# Altium schematic symbol library CUBIC_FC.SchLib: 143 symbols (part 4 of 8)
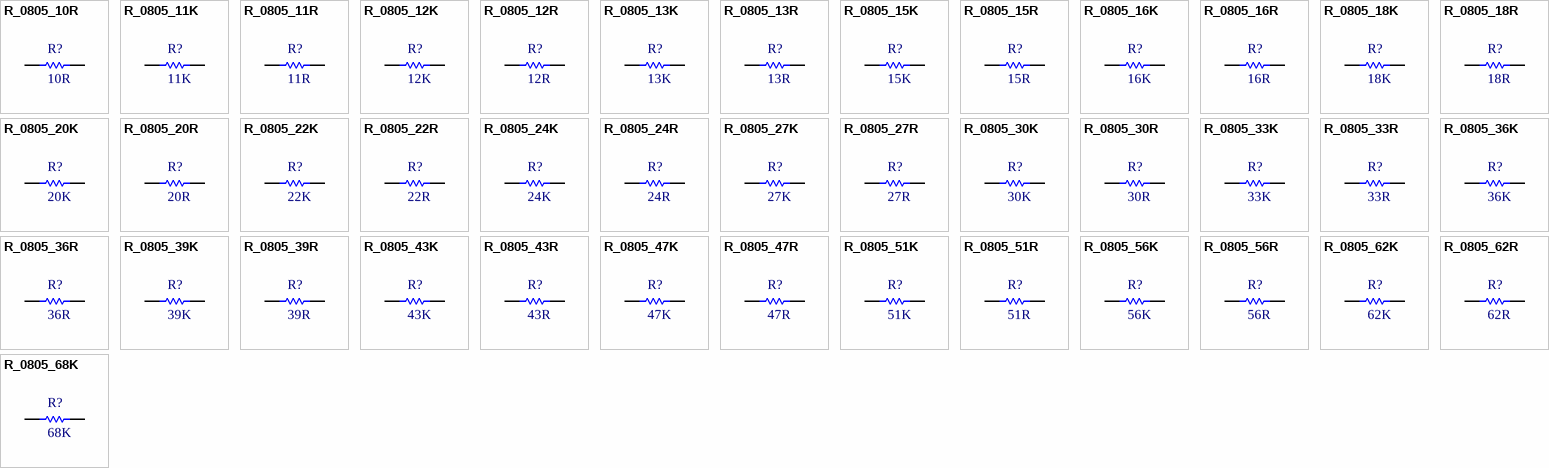
[diagram p6: symbols R_0805_10R to R_0805_68K]

## R_0805_30K
designator R?, comment 30K
Fixed Resistor, Metal Glaze/thick Film, 0.125W, 30000ohm, 150V, 1% +/-Tol, 100ppm/Cel, Surface Mount, 0805; Manufacturer: Panasonic; Manufacturer Part Number: ERJ-6ENF3002V; Power: 125mW; Rated Temperature: 70°C; Value: 30kR; Temperature Coefficient: 100ppm/°C; Package Height: 0.6mm; Package Length: 2mm; Package Width: 1.25mm; Reference Standard: AEC-Q200; Supplier: Digikey; Supplier Part Number: P30.0KCCT-ND; RoHS: Yes; Category: Chip SMD Resistors; Stock: 93180; Pricing: 1=0.11, 10=0.053, 50=0.0344, 100=0.0292, 500=0.02058, 1000=0.01792 (USD); Mounting Technology: Surface Mount; Pins: 2; Package Shape: Rectangular; Case/Package: 0805; Terminal Finish: Nickel; Min Operating Temperature: -55°C; Max Operating Temperature: 155°C; Tolerance: 1%; JESD-609 Code: e3; Resistor Type: FIXED RESISTOR; Construction: Rectangular; Package Style: SMTMeter; Packaging: Tape and Reel; Technology: METAL GLAZE/THICK FILM; Termination: Wraparound; Working Voltage: 150V; Reach SVHC Compliant: Yes; RoHS Compliant: Yes; ComponentLink1URL: https://datasheet.ciiva.com:443/pdfs/VipMasterIC/IC/PANA/PANA-S-A0009889626/PANA-S-A0009889626-1.pdf?src-supplier=IHS+Markit; ComponentLink1Description: https://datasheet.ciiva.com:443/pdfs/VipMasterIC/IC/PANA/PANA-S-A0009889626/PANA-S-A0009889626-1.pdf?src-supplier=IHS+Markit; ComponentLink2URL: https://datasheet.ciiva.com/11821/0900766b80f80784-11821600.pdf?src-supplier=Rs; ComponentLink2Description: https://datasheet.ciiva.com/11821/0900766b80f80784-11821600.pdf?src-supplier=Rs; ComponentLink3URL: https://datasheet.ciiva.com/9117/aoa0000ce2-9117485.pdf?src-supplier=Avnet; ComponentLink3Description: https://datasheet.ciiva.com/9117/aoa0000ce2-9117485.pdf?src-supplier=Avnet; ComponentLink4URL: https://datasheet.ciiva.com/24124/aoa0000ce2-24124393.pdf?src-supplier=Mouser; ComponentLink4Description: https://datasheet.ciiva.com/24124/aoa0000ce2-24124393.pdf?src-supplier=Mouser; ComponentLink5URL: https://datasheet.ciiva.com/22673/1678782-22673293.pdf?src-supplier=Element14; ComponentLink5Description: https://datasheet.ciiva.com/22673/1678782-22673293.pdf?src-supplier=Element14; ComponentLink6URL: https://datasheet.ciiva.com/28565/1694929-28565193.pdf?src-supplier=Element14; ComponentLink6Description: https://datasheet.ciiva.com/28565/1694929-28565193.pdf?src-supplier=Element14; ComponentLink7URL: https://datasheet.ciiva.com/46441/1678782-46441405.pdf?src-supplier=Element14; ComponentLink7Description: https://datasheet.ciiva.com/46441/1678782-46441405.pdf?src-supplier=Element14; ComponentLink8URL: https://datasheet.ciiva.com/46441/1678782-46441406.pdf?src-supplier=Element14; ComponentLink8Description: https://datasheet.ciiva.com/46441/1678782-46441406.pdf?src-supplier=Element14; ComponentLink9URL: https://datasheet.ciiva.com/7711/1678782-7711062.pdf?src-supplier=Element14; ComponentLink9Description: https://datasheet.ciiva.com/7711/1678782-7711062.pdf?src-supplier=Element14; ComponentLink10URL: https://datasheet.ciiva.com/30169/aoa0000ce2-30169447.pdf?src-supplier=Onlinecomponents.com; ComponentLink10Description: https://datasheet.ciiva.com/30169/aoa0000ce2-30169447.pdf?src-supplier=Onlinecomponents.com
footprint R_0805 (Chip Resistor, 2-Leads, Body 2.00x1.25mm, IPC Low Density)
pins: 1, 2

## R_0805_30R
designator R?, comment 30R
Fixed Resistor, Metal Glaze/thick Film, 0.125W, 30ohm, 150V, 1% +/-Tol, 100ppm/Cel, Surface Mount, 0805; Manufacturer: Panasonic; Manufacturer Part Number: ERJ-6ENF30R0V; Power: 125mW; Rated Temperature: 70°C; Temperature Coefficient: 100ppm/°C; Package Height: 0.6mm; Package Length: 2mm; Package Width: 1.25mm; Reference Standard: AEC-Q200; Supplier: Digikey; Supplier Part Number: P30.0CCT-ND; RoHS: Yes; Category: Chip SMD Resistors; Stock: 40182; Pricing: 1=0.11, 10=0.053, 50=0.0344, 100=0.0292, 500=0.02058, 1000=0.01792 (USD); Mounting Technology: Surface Mount; Pins: 2; Package Shape: Rectangular; Case/Package: 0805; Terminal Finish: Nickel; Min Operating Temperature: -55°C; Max Operating Temperature: 155°C; Tolerance: 1%; JESD-609 Code: e3; Resistor Type: FIXED RESISTOR; Construction: Rectangular; Package Style: SMTMeter; Packaging: Tape and Reel; Value: 30R; Technology: METAL GLAZE/THICK FILM; Termination: Wraparound; Working Voltage: 150V; Reach SVHC Compliant: Yes; RoHS Compliant: Yes; ComponentLink1URL: https://datasheet.ciiva.com:443/pdfs/VipMasterIC/IC/PANA/PANA-S-A0009889626/PANA-S-A0009889626-1.pdf?src-supplier=IHS+Markit; ComponentLink1Description: https://datasheet.ciiva.com:443/pdfs/VipMasterIC/IC/PANA/PANA-S-A0009889626/PANA-S-A0009889626-1.pdf?src-supplier=IHS+Markit; ComponentLink2URL: https://datasheet.ciiva.com/24026/aoa0000ce2-24026893.pdf?src-supplier=Mouser; ComponentLink2Description: https://datasheet.ciiva.com/24026/aoa0000ce2-24026893.pdf?src-supplier=Mouser; ComponentLink3URL: https://datasheet.ciiva.com/22674/1678782-22674519.pdf?src-supplier=Element14; ComponentLink3Description: https://datasheet.ciiva.com/22674/1678782-22674519.pdf?src-supplier=Element14; ComponentLink4URL: https://datasheet.ciiva.com/46440/1678782-46440382.pdf?src-supplier=Element14; ComponentLink4Description: https://datasheet.ciiva.com/46440/1678782-46440382.pdf?src-supplier=Element14; ComponentLink5URL: https://datasheet.ciiva.com/7795/1678782-7795550.pdf?src-supplier=Element14; ComponentLink5Description: https://datasheet.ciiva.com/7795/1678782-7795550.pdf?src-supplier=Element14
footprint R_0805 (Chip Resistor, 2-Leads, Body 2.00x1.25mm, IPC Low Density)
pins: 1, 2

## R_0805_33K
designator R?, comment 33K
Fixed Resistor, Metal Glaze/thick Film, 0.125W, 33000ohm, 150V, 1% +/-Tol, 100ppm/Cel, Surface Mount, 0805; Manufacturer: Panasonic; Manufacturer Part Number: ERJ-6ENF3302V; Power: 125mW; Rated Temperature: 70°C; Value: 33kR; Temperature Coefficient: 100ppm/°C; Package Height: 0.6mm; Package Length: 2mm; Package Width: 1.25mm; Reference Standard: AEC-Q200; Supplier: Digikey; Supplier Part Number: P33.0KCCT-ND; RoHS: Yes; Category: Chip SMD Resistors; Stock: 139008; Pricing: 1=0.11, 10=0.053, 50=0.0344, 100=0.0292, 500=0.02058, 1000=0.01792 (USD); Mounting Technology: Surface Mount; Pins: 2; Package Shape: Rectangular; Case/Package: 0805; Terminal Finish: Nickel; Min Operating Temperature: -55°C; Max Operating Temperature: 155°C; Tolerance: 1%; JESD-609 Code: e3; Resistor Type: FIXED RESISTOR; Construction: Rectangular; Package Style: SMTMeter; Packaging: Tape and Reel; Technology: METAL GLAZE/THICK FILM; Termination: Wraparound; Working Voltage: 150V; Reach SVHC Compliant: Yes; RoHS Compliant: Yes; ComponentLink1URL: https://datasheet.ciiva.com:443/pdfs/VipMasterIC/IC/PANA/PANA-S-A0009889626/PANA-S-A0009889626-1.pdf?src-supplier=IHS+Markit; ComponentLink1Description: https://datasheet.ciiva.com:443/pdfs/VipMasterIC/IC/PANA/PANA-S-A0009889626/PANA-S-A0009889626-1.pdf?src-supplier=IHS+Markit; ComponentLink2URL: https://datasheet.ciiva.com/11821/0900766b80f80784-11821633.pdf?src-supplier=Rs; ComponentLink2Description: https://datasheet.ciiva.com/11821/0900766b80f80784-11821633.pdf?src-supplier=Rs; ComponentLink3URL: https://datasheet.ciiva.com/7802/426256-7802442.pdf?src-supplier=Element14; ComponentLink3Description: https://datasheet.ciiva.com/7802/426256-7802442.pdf?src-supplier=Element14; ComponentLink4URL: https://datasheet.ciiva.com/6082/426256-6082150.pdf?src-supplier=Farnell; ComponentLink4Description: https://datasheet.ciiva.com/6082/426256-6082150.pdf?src-supplier=Farnell; ComponentLink5URL: https://datasheet.ciiva.com/22687/1678782-22687082.pdf?src-supplier=Element14; ComponentLink5Description: https://datasheet.ciiva.com/22687/1678782-22687082.pdf?src-supplier=Element14; ComponentLink6URL: https://datasheet.ciiva.com/46398/1678782-46398105.pdf?src-supplier=Element14; ComponentLink6Description: https://datasheet.ciiva.com/46398/1678782-46398105.pdf?src-supplier=Element14; ComponentLink7URL: https://datasheet.ciiva.com/22673/1678782-22673706.pdf?src-supplier=Element14; ComponentLink7Description: https://datasheet.ciiva.com/22673/1678782-22673706.pdf?src-supplier=Element14; ComponentLink8URL: https://datasheet.ciiva.com/46398/1678782-46398106.pdf?src-supplier=Element14; ComponentLink8Description: https://datasheet.ciiva.com/46398/1678782-46398106.pdf?src-supplier=Element14; ComponentLink9URL: https://datasheet.ciiva.com/9190/aoa0000ce2-9190683.pdf?src-supplier=Avnet; ComponentLink9Description: https://datasheet.ciiva.com/9190/aoa0000ce2-9190683.pdf?src-supplier=Avnet; ComponentLink10URL: https://datasheet.ciiva.com/24023/aoa0000ce2-24023910.pdf?src-supplier=Mouser; ComponentLink10Description: https://datasheet.ciiva.com/24023/aoa0000ce2-24023910.pdf?src-supplier=Mouser; ComponentLink11URL: https://datasheet.ciiva.com/30126/aoa0000ce2-30126410.pdf?src-supplier=Onlinecomponents.com; ComponentLink11Description: https://datasheet.ciiva.com/30126/aoa0000ce2-30126410.pdf?src-supplier=Onlinecomponents.com; ComponentLink12URL: https://datasheet.ciiva.com/16771/70260748-16771461.pdf?src-supplier=Allied+Electronics; ComponentLink12Description: https://datasheet.ciiva.com/16771/70260748-16771461.pdf?src-supplier=Allied+Electronics; ComponentLink13URL: https://datasheet.ciiva.com/16787/70260748-16787725.pdf?src-supplier=Allied+Electronics; ComponentLink13Description: https://datasheet.ciiva.com/16787/70260748-16787725.pdf?src-supplier=Allied+Electronics
footprint R_0805 (Chip Resistor, 2-Leads, Body 2.00x1.25mm, IPC Low Density)
pins: 1, 2

## R_0805_33R
designator R?, comment 33R
Fixed Resistor, Metal Glaze/thick Film, 0.125W, 33ohm, 150V, 1% +/-Tol, 100ppm/Cel, Surface Mount, 0805; Manufacturer: Panasonic; Manufacturer Part Number: ERJ-6ENF33R0V; Power: 125mW; Rated Temperature: 70°C; Temperature Coefficient: 100ppm/°C; Package Height: 0.6mm; Package Length: 2mm; Package Width: 1.25mm; Reference Standard: AEC-Q200; Supplier: Digikey; Supplier Part Number: P33.0CCT-ND; RoHS: Yes; Category: Chip SMD Resistors; Stock: 144267; Pricing: 1=0.11, 10=0.053, 50=0.0344, 100=0.0292, 500=0.02058, 1000=0.01792 (USD); Mounting Technology: Surface Mount; Pins: 2; Package Shape: Rectangular; Case/Package: 0805; Terminal Finish: Nickel; Min Operating Temperature: -55°C; Max Operating Temperature: 155°C; Tolerance: 1%; JESD-609 Code: e3; Resistor Type: FIXED RESISTOR; Construction: Rectangular; Package Style: SMTMeter; Packaging: Tape and Reel; Value: 33R; Technology: METAL GLAZE/THICK FILM; Termination: Wraparound; Working Voltage: 150V; Reach SVHC Compliant: Yes; RoHS Compliant: Yes; ComponentLink1URL: https://datasheet.ciiva.com:443/pdfs/VipMasterIC/IC/PANA/PANA-S-A0009889626/PANA-S-A0009889626-1.pdf?src-supplier=IHS+Markit; ComponentLink1Description: https://datasheet.ciiva.com:443/pdfs/VipMasterIC/IC/PANA/PANA-S-A0009889626/PANA-S-A0009889626-1.pdf?src-supplier=IHS+Markit; ComponentLink2URL: https://datasheet.ciiva.com/11821/0900766b80f80784-11821631.pdf?src-supplier=Rs; ComponentLink2Description: https://datasheet.ciiva.com/11821/0900766b80f80784-11821631.pdf?src-supplier=Rs; ComponentLink3URL: https://datasheet.ciiva.com/5917/426256-5917871.pdf?src-supplier=Farnell; ComponentLink3Description: https://datasheet.ciiva.com/5917/426256-5917871.pdf?src-supplier=Farnell; ComponentLink4URL: https://datasheet.ciiva.com/16786/70260748-16786245.pdf?src-supplier=Allied+Electronics; ComponentLink4Description: https://datasheet.ciiva.com/16786/70260748-16786245.pdf?src-supplier=Allied+Electronics; ComponentLink5URL: https://datasheet.ciiva.com/46420/1678782-46420182.pdf?src-supplier=Element14; ComponentLink5Description: https://datasheet.ciiva.com/46420/1678782-46420182.pdf?src-supplier=Element14; ComponentLink6URL: https://datasheet.ciiva.com/30127/aoa0000ce2-30127853.pdf?src-supplier=Onlinecomponents.com; ComponentLink6Description: https://datasheet.ciiva.com/30127/aoa0000ce2-30127853.pdf?src-supplier=Onlinecomponents.com; ComponentLink7URL: https://datasheet.ciiva.com/22673/1678782-22673295.pdf?src-supplier=Element14; ComponentLink7Description: https://datasheet.ciiva.com/22673/1678782-22673295.pdf?src-supplier=Element14; ComponentLink8URL: https://datasheet.ciiva.com/7836/426256-7836540.pdf?src-supplier=Element14; ComponentLink8Description: https://datasheet.ciiva.com/7836/426256-7836540.pdf?src-supplier=Element14; ComponentLink9URL: https://datasheet.ciiva.com/7836/426256-7836825.pdf?src-supplier=Element14; ComponentLink9Description: https://datasheet.ciiva.com/7836/426256-7836825.pdf?src-supplier=Element14
footprint R_0805 (Chip Resistor, 2-Leads, Body 2.00x1.25mm, IPC Low Density)
pins: 1, 2

## R_0805_36K
designator R?, comment 36K
Fixed Resistor, Metal Glaze/thick Film, 0.125W, 360000ohm, 150V, 1% +/-Tol, 100ppm/Cel, Surface Mount, 0805; Manufacturer: Panasonic; Manufacturer Part Number: ERJ-6ENF3603V; Power: 125mW; Rated Temperature: 70°C; Value: 360kR; Temperature Coefficient: 100ppm/°C; Package Height: 0.6mm; Package Length: 2mm; Package Width: 1.25mm; Reference Standard: AEC-Q200; Supplier: Digikey; Supplier Part Number: P360KCCT-ND; RoHS: Yes; Category: Chip SMD Resistors; Stock: 65767; Pricing: 1=0.11, 10=0.053, 50=0.0344, 100=0.0292, 500=0.02058, 1000=0.01792 (USD); Mounting Technology: Surface Mount; Pins: 2; Package Shape: Rectangular; Case/Package: 0805; Terminal Finish: Nickel; Min Operating Temperature: -55°C; Max Operating Temperature: 155°C; Tolerance: 1%; JESD-609 Code: e3; Resistor Type: FIXED RESISTOR; Construction: Rectangular; Package Style: SMTMeter; Packaging: Tape and Reel; Technology: METAL GLAZE/THICK FILM; Termination: Wraparound; Working Voltage: 150V; Reach SVHC Compliant: Yes; RoHS Compliant: Yes; ComponentLink1URL: https://datasheet.ciiva.com:443/pdfs/VipMasterIC/IC/PANA/PANA-S-A0009889626/PANA-S-A0009889626-1.pdf?src-supplier=IHS+Markit; ComponentLink1Description: https://datasheet.ciiva.com:443/pdfs/VipMasterIC/IC/PANA/PANA-S-A0009889626/PANA-S-A0009889626-1.pdf?src-supplier=IHS+Markit; ComponentLink2URL: https://datasheet.ciiva.com/11821/0900766b80f80784-11821629.pdf?src-supplier=Rs; ComponentLink2Description: https://datasheet.ciiva.com/11821/0900766b80f80784-11821629.pdf?src-supplier=Rs; ComponentLink3URL: https://datasheet.ciiva.com/22729/1678782-22729854.pdf?src-supplier=Farnell; ComponentLink3Description: https://datasheet.ciiva.com/22729/1678782-22729854.pdf?src-supplier=Farnell; ComponentLink4URL: https://datasheet.ciiva.com/9182/aoa0000ce2-9182742.pdf?src-supplier=Avnet; ComponentLink4Description: https://datasheet.ciiva.com/9182/aoa0000ce2-9182742.pdf?src-supplier=Avnet; ComponentLink5URL: https://datasheet.ciiva.com/46419/1678782-46419895.pdf?src-supplier=Element14; ComponentLink5Description: https://datasheet.ciiva.com/46419/1678782-46419895.pdf?src-supplier=Element14; ComponentLink6URL: https://datasheet.ciiva.com/22739/1678782-22739743.pdf?src-supplier=Element14; ComponentLink6Description: https://datasheet.ciiva.com/22739/1678782-22739743.pdf?src-supplier=Element14
footprint R_0805 (Chip Resistor, 2-Leads, Body 2.00x1.25mm, IPC Low Density)
pins: 1, 2

## R_0805_36R
designator R?, comment 36R
Fixed Resistor, Metal Glaze/thick Film, 0.125W, 36ohm, 150V, 1% +/-Tol, 100ppm/Cel, Surface Mount, 0805; Manufacturer: Panasonic; Manufacturer Part Number: ERJ-6ENF36R0V; Power: 125mW; Rated Temperature: 70°C; Temperature Coefficient: 100ppm/°C; Package Height: 0.6mm; Package Length: 2mm; Package Width: 1.25mm; Reference Standard: AEC-Q200; Supplier: Digikey; Supplier Part Number: P36.0CCT-ND; RoHS: Yes; Category: Chip SMD Resistors; Stock: 35050; Pricing: 1=0.11, 10=0.053, 50=0.0344, 100=0.0292, 500=0.02058, 1000=0.01792 (USD); Mounting Technology: Surface Mount; Pins: 2; Package Shape: Rectangular; Case/Package: 0805; Terminal Finish: Nickel; Min Operating Temperature: -55°C; Max Operating Temperature: 155°C; Tolerance: 1%; JESD-609 Code: e3; Resistor Type: FIXED RESISTOR; Construction: Rectangular; Package Style: SMTMeter; Packaging: Tape and Reel; Value: 36R; Technology: METAL GLAZE/THICK FILM; Termination: Wraparound; Working Voltage: 150V; Reach SVHC Compliant: Yes; RoHS Compliant: Yes; ComponentLink1URL: https://datasheet.ciiva.com:443/pdfs/VipMasterIC/IC/PANA/PANA-S-A0009889626/PANA-S-A0009889626-1.pdf?src-supplier=IHS+Markit; ComponentLink1Description: https://datasheet.ciiva.com:443/pdfs/VipMasterIC/IC/PANA/PANA-S-A0009889626/PANA-S-A0009889626-1.pdf?src-supplier=IHS+Markit; ComponentLink2URL: https://datasheet.ciiva.com/22721/1678782-22721322.pdf?src-supplier=Farnell; ComponentLink2Description: https://datasheet.ciiva.com/22721/1678782-22721322.pdf?src-supplier=Farnell; ComponentLink3URL: https://datasheet.ciiva.com/9190/aoa0000ce2-9190282.pdf?src-supplier=Avnet; ComponentLink3Description: https://datasheet.ciiva.com/9190/aoa0000ce2-9190282.pdf?src-supplier=Avnet; ComponentLink4URL: https://datasheet.ciiva.com/46419/1678782-46419894.pdf?src-supplier=Element14; ComponentLink4Description: https://datasheet.ciiva.com/46419/1678782-46419894.pdf?src-supplier=Element14
footprint R_0805 (Chip Resistor, 2-Leads, Body 2.00x1.25mm, IPC Low Density)
pins: 1, 2

## R_0805_39K
designator R?, comment 39K
Fixed Resistor, Metal Glaze/thick Film, 0.125W, 39000ohm, 150V, 1% +/-Tol, 100ppm/Cel, Surface Mount, 0805; Manufacturer: Panasonic; Manufacturer Part Number: ERJ-6ENF3902V; Power: 125mW; Rated Temperature: 70°C; Value: 39kR; Temperature Coefficient: 100ppm/°C; Package Height: 0.6mm; Package Length: 2mm; Package Width: 1.25mm; Reference Standard: AEC-Q200; Supplier: Digikey; Supplier Part Number: P39.0KCCT-ND; RoHS: Yes; Category: Chip SMD Resistors; Stock: 120905; Pricing: 1=0.11, 10=0.053, 50=0.0344, 100=0.0292, 500=0.02058, 1000=0.01792 (USD); Mounting Technology: Surface Mount; Pins: 2; Package Shape: Rectangular; Case/Package: 0805; Terminal Finish: Nickel; Min Operating Temperature: -55°C; Max Operating Temperature: 155°C; Tolerance: 1%; JESD-609 Code: e3; Resistor Type: FIXED RESISTOR; Construction: Rectangular; Package Style: SMTMeter; Packaging: Tape and Reel; Technology: METAL GLAZE/THICK FILM; Termination: Wraparound; Working Voltage: 150V; Reach SVHC Compliant: Yes; RoHS Compliant: Yes; ComponentLink1URL: https://datasheet.ciiva.com:443/pdfs/VipMasterIC/IC/PANA/PANA-S-A0009889626/PANA-S-A0009889626-1.pdf?src-supplier=IHS+Markit; ComponentLink1Description: https://datasheet.ciiva.com:443/pdfs/VipMasterIC/IC/PANA/PANA-S-A0009889626/PANA-S-A0009889626-1.pdf?src-supplier=IHS+Markit
footprint R_0805 (Chip Resistor, 2-Leads, Body 2.00x1.25mm, IPC Low Density)
pins: 1, 2

## R_0805_39R
designator R?, comment 39R
Fixed Resistor, Metal Glaze/thick Film, 0.125W, 39ohm, 150V, 1% +/-Tol, 100ppm/Cel, Surface Mount, 0805; Manufacturer: Panasonic; Manufacturer Part Number: ERJ-6ENF39R0V; Power: 125mW; Rated Temperature: 70°C; Temperature Coefficient: 100ppm/°C; Package Height: 0.6mm; Package Length: 2mm; Package Width: 1.25mm; Reference Standard: AEC-Q200; Supplier: Digikey; Supplier Part Number: P39.0CCT-ND; RoHS: Yes; Category: Chip SMD Resistors; Stock: 180159; Pricing: 1=0.11, 10=0.053, 50=0.0344, 100=0.0292, 500=0.02058, 1000=0.01792 (USD); Mounting Technology: Surface Mount; Pins: 2; Package Shape: Rectangular; Case/Package: 0805; Terminal Finish: Nickel; Min Operating Temperature: -55°C; Max Operating Temperature: 155°C; Tolerance: 1%; JESD-609 Code: e3; Resistor Type: FIXED RESISTOR; Construction: Rectangular; Package Style: SMTMeter; Packaging: Tape and Reel; Value: 39R; Technology: METAL GLAZE/THICK FILM; Termination: Wraparound; Working Voltage: 150V; Reach SVHC Compliant: Yes; RoHS Compliant: Yes; ComponentLink1URL: https://datasheet.ciiva.com:443/pdfs/VipMasterIC/IC/PANA/PANA-S-A0009889626/PANA-S-A0009889626-1.pdf?src-supplier=IHS+Markit; ComponentLink1Description: https://datasheet.ciiva.com:443/pdfs/VipMasterIC/IC/PANA/PANA-S-A0009889626/PANA-S-A0009889626-1.pdf?src-supplier=IHS+Markit; ComponentLink2URL: https://datasheet.ciiva.com/5915/426256-5915343.pdf?src-supplier=Farnell; ComponentLink2Description: https://datasheet.ciiva.com/5915/426256-5915343.pdf?src-supplier=Farnell; ComponentLink3URL: https://datasheet.ciiva.com/9190/aoa0000ce2-9190012.pdf?src-supplier=Avnet; ComponentLink3Description: https://datasheet.ciiva.com/9190/aoa0000ce2-9190012.pdf?src-supplier=Avnet; ComponentLink4URL: https://datasheet.ciiva.com/16761/70260748-16761757.pdf?src-supplier=Allied+Electronics; ComponentLink4Description: https://datasheet.ciiva.com/16761/70260748-16761757.pdf?src-supplier=Allied+Electronics; ComponentLink5URL: https://datasheet.ciiva.com/16777/70260748-16777327.pdf?src-supplier=Allied+Electronics; ComponentLink5Description: https://datasheet.ciiva.com/16777/70260748-16777327.pdf?src-supplier=Allied+Electronics; ComponentLink6URL: https://datasheet.ciiva.com/30064/aoa0000ce2-30064223.pdf?src-supplier=Onlinecomponents.com; ComponentLink6Description: https://datasheet.ciiva.com/30064/aoa0000ce2-30064223.pdf?src-supplier=Onlinecomponents.com; ComponentLink7URL: https://datasheet.ciiva.com/22682/1678782-22682204.pdf?src-supplier=Element14; ComponentLink7Description: https://datasheet.ciiva.com/22682/1678782-22682204.pdf?src-supplier=Element14; ComponentLink8URL: https://datasheet.ciiva.com/22687/1678782-22687439.pdf?src-supplier=Element14; ComponentLink8Description: https://datasheet.ciiva.com/22687/1678782-22687439.pdf?src-supplier=Element14; ComponentLink9URL: https://datasheet.ciiva.com/24038/aoa0000ce2-24038777.pdf?src-supplier=Mouser; ComponentLink9Description: https://datasheet.ciiva.com/24038/aoa0000ce2-24038777.pdf?src-supplier=Mouser; ComponentLink10URL: https://datasheet.ciiva.com/7836/426256-7836541.pdf?src-supplier=Element14; ComponentLink10Description: https://datasheet.ciiva.com/7836/426256-7836541.pdf?src-supplier=Element14; ComponentLink11URL: https://datasheet.ciiva.com/7836/426256-7836826.pdf?src-supplier=Element14; ComponentLink11Description: https://datasheet.ciiva.com/7836/426256-7836826.pdf?src-supplier=Element14
footprint R_0805 (Chip Resistor, 2-Leads, Body 2.00x1.25mm, IPC Low Density)
pins: 1, 2

## R_0805_43K
designator R?, comment 43K
Fixed Resistor, Metal Glaze/thick Film, 0.125W, 43000ohm, 150V, 1% +/-Tol, 100ppm/Cel, Surface Mount, 0805; Manufacturer: Panasonic; Manufacturer Part Number: ERJ-6ENF4302V; Power: 125mW; Rated Temperature: 70°C; Value: 43kR; Temperature Coefficient: 100ppm/°C; Package Height: 0.6mm; Package Length: 2mm; Package Width: 1.25mm; Reference Standard: AEC-Q200; Supplier: Digikey; Supplier Part Number: P43.0KCCT-ND; RoHS: Yes; Category: Chip SMD Resistors; Stock: 63242; Pricing: 1=0.11, 10=0.053, 50=0.0344, 100=0.0292, 500=0.02058, 1000=0.01792 (USD); Mounting Technology: Surface Mount; Pins: 2; Package Shape: Rectangular; Case/Package: 0805; Terminal Finish: Nickel; Min Operating Temperature: -55°C; Max Operating Temperature: 155°C; Tolerance: 1%; JESD-609 Code: e3; Resistor Type: FIXED RESISTOR; Construction: Rectangular; Package Style: SMTMeter; Packaging: Tape and Reel; Technology: METAL GLAZE/THICK FILM; Termination: Wraparound; Working Voltage: 150V; Reach SVHC Compliant: Yes; RoHS Compliant: Yes; ComponentLink1URL: https://datasheet.ciiva.com:443/pdfs/VipMasterIC/IC/PANA/PANA-S-A0009889626/PANA-S-A0009889626-1.pdf?src-supplier=IHS+Markit; ComponentLink1Description: https://datasheet.ciiva.com:443/pdfs/VipMasterIC/IC/PANA/PANA-S-A0009889626/PANA-S-A0009889626-1.pdf?src-supplier=IHS+Markit; ComponentLink2URL: https://datasheet.ciiva.com/11821/0900766b80f80784-11821648.pdf?src-supplier=Rs; ComponentLink2Description: https://datasheet.ciiva.com/11821/0900766b80f80784-11821648.pdf?src-supplier=Rs; ComponentLink3URL: https://datasheet.ciiva.com/22681/1678782-22681695.pdf?src-supplier=Element14; ComponentLink3Description: https://datasheet.ciiva.com/22681/1678782-22681695.pdf?src-supplier=Element14; ComponentLink4URL: https://datasheet.ciiva.com/46447/1678782-46447769.pdf?src-supplier=Element14; ComponentLink4Description: https://datasheet.ciiva.com/46447/1678782-46447769.pdf?src-supplier=Element14; ComponentLink5URL: https://datasheet.ciiva.com/7711/1678782-7711066.pdf?src-supplier=Element14; ComponentLink5Description: https://datasheet.ciiva.com/7711/1678782-7711066.pdf?src-supplier=Element14; ComponentLink6URL: https://datasheet.ciiva.com/30142/aoa0000ce2-30142015.pdf?src-supplier=Onlinecomponents.com; ComponentLink6Description: https://datasheet.ciiva.com/30142/aoa0000ce2-30142015.pdf?src-supplier=Onlinecomponents.com
footprint R_0805 (Chip Resistor, 2-Leads, Body 2.00x1.25mm, IPC Low Density)
pins: 1, 2

## R_0805_43R
designator R?, comment 43R
Fixed Resistor, Metal Glaze/thick Film, 0.125W, 43ohm, 150V, 1% +/-Tol, 100ppm/Cel, Surface Mount, 0805; Manufacturer: Panasonic; Manufacturer Part Number: ERJ-6ENF43R0V; Power: 125mW; Rated Temperature: 70°C; Temperature Coefficient: 100ppm/°C; Package Height: 0.6mm; Package Length: 2mm; Package Width: 1.25mm; Reference Standard: AEC-Q200; Supplier: Digikey; Supplier Part Number: P43.0CCT-ND; RoHS: Yes; Category: Chip SMD Resistors; Stock: 6716; Pricing: 1=0.11, 10=0.053, 50=0.0344, 100=0.0292, 500=0.02058, 1000=0.01792 (USD); Mounting Technology: Surface Mount; Pins: 2; Package Shape: Rectangular; Case/Package: 0805; Terminal Finish: Nickel; Min Operating Temperature: -55°C; Max Operating Temperature: 155°C; Tolerance: 1%; JESD-609 Code: e3; Resistor Type: FIXED RESISTOR; Construction: Rectangular; Package Style: SMTMeter; Packaging: Tape and Reel; Value: 43R; Technology: METAL GLAZE/THICK FILM; Termination: Wraparound; Working Voltage: 150V; Reach SVHC Compliant: Yes; RoHS Compliant: Yes; ComponentLink1URL: https://datasheet.ciiva.com:443/pdfs/VipMasterIC/IC/PANA/PANA-S-A0009889626/PANA-S-A0009889626-1.pdf?src-supplier=IHS+Markit; ComponentLink1Description: https://datasheet.ciiva.com:443/pdfs/VipMasterIC/IC/PANA/PANA-S-A0009889626/PANA-S-A0009889626-1.pdf?src-supplier=IHS+Markit; ComponentLink2URL: https://datasheet.ciiva.com/11821/0900766b80f80784-11821647.pdf?src-supplier=Rs; ComponentLink2Description: https://datasheet.ciiva.com/11821/0900766b80f80784-11821647.pdf?src-supplier=Rs; ComponentLink3URL: https://datasheet.ciiva.com/22739/1678782-22739214.pdf?src-supplier=Farnell; ComponentLink3Description: https://datasheet.ciiva.com/22739/1678782-22739214.pdf?src-supplier=Farnell; ComponentLink4URL: https://datasheet.ciiva.com/9189/aoa0000ce2-9189725.pdf?src-supplier=Avnet; ComponentLink4Description: https://datasheet.ciiva.com/9189/aoa0000ce2-9189725.pdf?src-supplier=Avnet; ComponentLink5URL: https://datasheet.ciiva.com/22668/1678782-22668021.pdf?src-supplier=Element14; ComponentLink5Description: https://datasheet.ciiva.com/22668/1678782-22668021.pdf?src-supplier=Element14
footprint R_0805 (Chip Resistor, 2-Leads, Body 2.00x1.25mm, IPC Low Density)
pins: 1, 2

## R_0805_47K
designator R?, comment 47K
Fixed Resistor, Metal Glaze/thick Film, 0.125W, 47000ohm, 150V, 1% +/-Tol, 100ppm/Cel, Surface Mount, 0805; Manufacturer: Panasonic; Manufacturer Part Number: ERJ-6ENF4702V; Power: 125mW; Rated Temperature: 70°C; Value: 47kR; Temperature Coefficient: 100ppm/°C; Package Height: 0.6mm; Package Length: 2mm; Package Width: 1.25mm; Reference Standard: AEC-Q200; Supplier: Digikey; Supplier Part Number: P47.0KCCT-ND; RoHS: Yes; Category: Chip SMD Resistors; Stock: 225746; Pricing: 1=0.11, 10=0.053, 50=0.0344, 100=0.0292, 500=0.02058, 1000=0.01792 (USD); Mounting Technology: Surface Mount; Pins: 2; Package Shape: Rectangular; Case/Package: 0805; Terminal Finish: Nickel; Min Operating Temperature: -55°C; Max Operating Temperature: 155°C; Tolerance: 1%; JESD-609 Code: e3; Resistor Type: FIXED RESISTOR; Construction: Rectangular; Package Style: SMTMeter; Packaging: Tape and Reel; Technology: METAL GLAZE/THICK FILM; Termination: Wraparound; Working Voltage: 150V; Reach SVHC Compliant: Yes; RoHS Compliant: Yes; ComponentLink1URL: https://datasheet.ciiva.com:443/pdfs/VipMasterIC/IC/PANA/PANA-S-A0009889626/PANA-S-A0009889626-1.pdf?src-supplier=IHS+Markit; ComponentLink1Description: https://datasheet.ciiva.com:443/pdfs/VipMasterIC/IC/PANA/PANA-S-A0009889626/PANA-S-A0009889626-1.pdf?src-supplier=IHS+Markit; ComponentLink2URL: https://datasheet.ciiva.com/3883/3984280s8821682n1386-3883650.pdf?src-supplier=Arrow+Electronics; ComponentLink2Description: https://datasheet.ciiva.com/3883/3984280s8821682n1386-3883650.pdf?src-supplier=Arrow+Electronics; ComponentLink3URL: https://datasheet.ciiva.com/11821/0900766b80f80784-11821639.pdf?src-supplier=Rs; ComponentLink3Description: https://datasheet.ciiva.com/11821/0900766b80f80784-11821639.pdf?src-supplier=Rs; ComponentLink4URL: https://datasheet.ciiva.com/9189/aoa0000ce2-9189448.pdf?src-supplier=Avnet; ComponentLink4Description: https://datasheet.ciiva.com/9189/aoa0000ce2-9189448.pdf?src-supplier=Avnet; ComponentLink5URL: https://datasheet.ciiva.com/7802/426256-7802693.pdf?src-supplier=Element14; ComponentLink5Description: https://datasheet.ciiva.com/7802/426256-7802693.pdf?src-supplier=Element14; ComponentLink6URL: https://datasheet.ciiva.com/16765/70260748-16765017.pdf?src-supplier=Allied+Electronics; ComponentLink6Description: https://datasheet.ciiva.com/16765/70260748-16765017.pdf?src-supplier=Allied+Electronics; ComponentLink7URL: https://datasheet.ciiva.com/30059/aoa0000ce2-30059497.pdf?src-supplier=Onlinecomponents.com; ComponentLink7Description: https://datasheet.ciiva.com/30059/aoa0000ce2-30059497.pdf?src-supplier=Onlinecomponents.com; ComponentLink8URL: https://datasheet.ciiva.com/28587/1678782-28587221.pdf?src-supplier=Element14; ComponentLink8Description: https://datasheet.ciiva.com/28587/1678782-28587221.pdf?src-supplier=Element14
footprint R_0805 (Chip Resistor, 2-Leads, Body 2.00x1.25mm, IPC Low Density)
pins: 1, 2

## R_0805_47R
designator R?, comment 47R
Fixed Resistor, Metal Glaze/thick Film, 0.125W, 47ohm, 150V, 1% +/-Tol, 100ppm/Cel, Surface Mount, 0805; Manufacturer: Panasonic; Manufacturer Part Number: ERJ-6ENF47R0V; Power: 125mW; Rated Temperature: 70°C; Temperature Coefficient: 100ppm/°C; Package Height: 0.6mm; Package Length: 2mm; Package Width: 1.25mm; Reference Standard: AEC-Q200; Supplier: Digikey; Supplier Part Number: P47.0CCT-ND; RoHS: Yes; Category: Chip SMD Resistors; Stock: 41869; Pricing: 1=0.11, 10=0.053, 50=0.0344, 100=0.0292, 500=0.02058, 1000=0.01792 (USD); Mounting Technology: Surface Mount; Pins: 2; Package Shape: Rectangular; Case/Package: 0805; Terminal Finish: Nickel; Min Operating Temperature: -55°C; Max Operating Temperature: 155°C; Tolerance: 1%; JESD-609 Code: e3; Resistor Type: FIXED RESISTOR; Construction: Rectangular; Package Style: SMTMeter; Packaging: Tape and Reel; Value: 47R; Technology: METAL GLAZE/THICK FILM; Termination: Wraparound; Working Voltage: 150V; Reach SVHC Compliant: Yes; RoHS Compliant: Yes; ComponentLink1URL: https://datasheet.ciiva.com:443/pdfs/VipMasterIC/IC/PANA/PANA-S-A0009889626/PANA-S-A0009889626-1.pdf?src-supplier=IHS+Markit; ComponentLink1Description: https://datasheet.ciiva.com:443/pdfs/VipMasterIC/IC/PANA/PANA-S-A0009889626/PANA-S-A0009889626-1.pdf?src-supplier=IHS+Markit; ComponentLink2URL: https://datasheet.ciiva.com/6082/426256-6082156.pdf?src-supplier=Farnell; ComponentLink2Description: https://datasheet.ciiva.com/6082/426256-6082156.pdf?src-supplier=Farnell; ComponentLink3URL: https://datasheet.ciiva.com/24124/aoa0000ce2-24124363.pdf?src-supplier=Mouser; ComponentLink3Description: https://datasheet.ciiva.com/24124/aoa0000ce2-24124363.pdf?src-supplier=Mouser; ComponentLink4URL: https://datasheet.ciiva.com/28568/1678782-28568988.pdf?src-supplier=Element14; ComponentLink4Description: https://datasheet.ciiva.com/28568/1678782-28568988.pdf?src-supplier=Element14; ComponentLink5URL: https://datasheet.ciiva.com/46371/1678782-46371768.pdf?src-supplier=Element14; ComponentLink5Description: https://datasheet.ciiva.com/46371/1678782-46371768.pdf?src-supplier=Element14; ComponentLink6URL: https://datasheet.ciiva.com/7887/426256-7887033.pdf?src-supplier=Element14; ComponentLink6Description: https://datasheet.ciiva.com/7887/426256-7887033.pdf?src-supplier=Element14; ComponentLink7URL: https://datasheet.ciiva.com/16772/70260748-16772181.pdf?src-supplier=Allied+Electronics; ComponentLink7Description: https://datasheet.ciiva.com/16772/70260748-16772181.pdf?src-supplier=Allied+Electronics; ComponentLink8URL: https://datasheet.ciiva.com/16777/70260748-16777259.pdf?src-supplier=Allied+Electronics; ComponentLink8Description: https://datasheet.ciiva.com/16777/70260748-16777259.pdf?src-supplier=Allied+Electronics; ComponentLink9URL: https://datasheet.ciiva.com/30160/aoa0000ce2-30160043.pdf?src-supplier=Onlinecomponents.com; ComponentLink9Description: https://datasheet.ciiva.com/30160/aoa0000ce2-30160043.pdf?src-supplier=Onlinecomponents.com
footprint R_0805 (Chip Resistor, 2-Leads, Body 2.00x1.25mm, IPC Low Density)
pins: 1, 2

## R_0805_51K
designator R?, comment 51K
Fixed Resistor, Metal Glaze/thick Film, 0.125W, 51000ohm, 150V, 1% +/-Tol, 100ppm/Cel, Surface Mount, 0805; Manufacturer: Panasonic; Manufacturer Part Number: ERJ-6ENF5102V; Power: 125mW; Rated Temperature: 70°C; Value: 51kR; Temperature Coefficient: 100ppm/°C; Package Height: 0.6mm; Package Length: 2mm; Package Width: 1.25mm; Reference Standard: AEC-Q200; Supplier: Digikey; Supplier Part Number: P51.0KCCT-ND; RoHS: Yes; Category: Chip SMD Resistors; Stock: 104118; Pricing: 1=0.11, 10=0.053, 50=0.0344, 100=0.0292, 500=0.02058, 1000=0.01792 (USD); Mounting Technology: Surface Mount; Pins: 2; Package Shape: Rectangular; Case/Package: 0805; Terminal Finish: Nickel; Min Operating Temperature: -55°C; Max Operating Temperature: 155°C; Tolerance: 1%; JESD-609 Code: e3; Resistor Type: FIXED RESISTOR; Construction: Rectangular; Package Style: SMTMeter; Packaging: Tape and Reel; Technology: METAL GLAZE/THICK FILM; Termination: Wraparound; Working Voltage: 150V; Reach SVHC Compliant: Yes; RoHS Compliant: Yes; ComponentLink1URL: https://datasheet.ciiva.com:443/pdfs/VipMasterIC/IC/PANA/PANA-S-A0009889626/PANA-S-A0009889626-1.pdf?src-supplier=IHS+Markit; ComponentLink1Description: https://datasheet.ciiva.com:443/pdfs/VipMasterIC/IC/PANA/PANA-S-A0009889626/PANA-S-A0009889626-1.pdf?src-supplier=IHS+Markit; ComponentLink2URL: https://datasheet.ciiva.com/11821/0900766b80f80784-11821667.pdf?src-supplier=Rs; ComponentLink2Description: https://datasheet.ciiva.com/11821/0900766b80f80784-11821667.pdf?src-supplier=Rs; ComponentLink3URL: https://datasheet.ciiva.com/46381/1678782-46381560.pdf?src-supplier=Element14; ComponentLink3Description: https://datasheet.ciiva.com/46381/1678782-46381560.pdf?src-supplier=Element14; ComponentLink4URL: https://datasheet.ciiva.com/46381/1678782-46381561.pdf?src-supplier=Element14; ComponentLink4Description: https://datasheet.ciiva.com/46381/1678782-46381561.pdf?src-supplier=Element14; ComponentLink5URL: https://datasheet.ciiva.com/22682/1678782-22682207.pdf?src-supplier=Element14; ComponentLink5Description: https://datasheet.ciiva.com/22682/1678782-22682207.pdf?src-supplier=Element14; ComponentLink6URL: https://datasheet.ciiva.com/24026/aoa0000ce2-24026488.pdf?src-supplier=Mouser; ComponentLink6Description: https://datasheet.ciiva.com/24026/aoa0000ce2-24026488.pdf?src-supplier=Mouser; ComponentLink7URL: https://datasheet.ciiva.com/30051/aoa0000ce2-30051758.pdf?src-supplier=Onlinecomponents.com; ComponentLink7Description: https://datasheet.ciiva.com/30051/aoa0000ce2-30051758.pdf?src-supplier=Onlinecomponents.com; ComponentLink8URL: https://datasheet.ciiva.com/16774/70260748-16774949.pdf?src-supplier=Allied+Electronics; ComponentLink8Description: https://datasheet.ciiva.com/16774/70260748-16774949.pdf?src-supplier=Allied+Electronics; ComponentLink9URL: https://datasheet.ciiva.com/16788/70260748-16788109.pdf?src-supplier=Allied+Electronics; ComponentLink9Description: https://datasheet.ciiva.com/16788/70260748-16788109.pdf?src-supplier=Allied+Electronics
footprint R_0805 (Chip Resistor, 2-Leads, Body 2.00x1.25mm, IPC Low Density)
pins: 1, 2

## R_0805_51R
designator R?, comment 51R
Fixed Resistor, Metal Glaze/thick Film, 0.125W, 51ohm, 150V, 1% +/-Tol, 100ppm/Cel, Surface Mount, 0805; Manufacturer: Panasonic; Manufacturer Part Number: ERJ-6ENF51R0V; Power: 125mW; Rated Temperature: 70°C; Temperature Coefficient: 100ppm/°C; Package Height: 0.6mm; Package Length: 2mm; Package Width: 1.25mm; Reference Standard: AEC-Q200; Supplier: Digikey; Supplier Part Number: P51.0CCT-ND; RoHS: Yes; Category: Chip SMD Resistors; Stock: 83289; Pricing: 1=0.11, 10=0.053, 50=0.0344, 100=0.0292, 500=0.02058, 1000=0.01792 (USD); Mounting Technology: Surface Mount; Pins: 2; Package Shape: Rectangular; Case/Package: 0805; Terminal Finish: Nickel; Min Operating Temperature: -55°C; Max Operating Temperature: 155°C; Tolerance: 1%; JESD-609 Code: e3; Resistor Type: FIXED RESISTOR; Construction: Rectangular; Package Style: SMTMeter; Packaging: Tape and Reel; Value: 51R; Technology: METAL GLAZE/THICK FILM; Termination: Wraparound; Working Voltage: 150V; Reach SVHC Compliant: Yes; RoHS Compliant: Yes; ComponentLink1URL: https://datasheet.ciiva.com:443/pdfs/VipMasterIC/IC/PANA/PANA-S-A0009889626/PANA-S-A0009889626-1.pdf?src-supplier=IHS+Markit; ComponentLink1Description: https://datasheet.ciiva.com:443/pdfs/VipMasterIC/IC/PANA/PANA-S-A0009889626/PANA-S-A0009889626-1.pdf?src-supplier=IHS+Markit; ComponentLink2URL: https://datasheet.ciiva.com/11821/0900766b80f80784-11821666.pdf?src-supplier=Rs; ComponentLink2Description: https://datasheet.ciiva.com/11821/0900766b80f80784-11821666.pdf?src-supplier=Rs; ComponentLink3URL: https://datasheet.ciiva.com/9189/aoa0000ce2-9189048.pdf?src-supplier=Avnet; ComponentLink3Description: https://datasheet.ciiva.com/9189/aoa0000ce2-9189048.pdf?src-supplier=Avnet; ComponentLink4URL: https://datasheet.ciiva.com/24069/aoa0000ce2-24069916.pdf?src-supplier=Mouser; ComponentLink4Description: https://datasheet.ciiva.com/24069/aoa0000ce2-24069916.pdf?src-supplier=Mouser; ComponentLink5URL: https://datasheet.ciiva.com/16786/70260748-16786149.pdf?src-supplier=Allied+Electronics; ComponentLink5Description: https://datasheet.ciiva.com/16786/70260748-16786149.pdf?src-supplier=Allied+Electronics; ComponentLink6URL: https://datasheet.ciiva.com/16787/70260748-16787022.pdf?src-supplier=Allied+Electronics; ComponentLink6Description: https://datasheet.ciiva.com/16787/70260748-16787022.pdf?src-supplier=Allied+Electronics
footprint R_0805 (Chip Resistor, 2-Leads, Body 2.00x1.25mm, IPC Low Density)
pins: 1, 2

## R_0805_56K
designator R?, comment 56K
Fixed Resistor, Metal Glaze/thick Film, 0.125W, 56000ohm, 150V, 1% +/-Tol, 100ppm/Cel, Surface Mount, 0805; Manufacturer: Panasonic; Manufacturer Part Number: ERJ-6ENF5602V; Power: 125mW; Rated Temperature: 70°C; Value: 56kR; Temperature Coefficient: 100ppm/°C; Package Height: 0.6mm; Package Length: 2mm; Package Width: 1.25mm; Reference Standard: AEC-Q200; Supplier: Digikey; Supplier Part Number: P56.0KCCT-ND; RoHS: Yes; Category: Chip SMD Resistors; Stock: 66316; Pricing: 1=0.11, 10=0.053, 50=0.0344, 100=0.0292, 500=0.02058, 1000=0.01792 (USD); Mounting Technology: Surface Mount; Pins: 2; Package Shape: Rectangular; Case/Package: 0805; Terminal Finish: Nickel; Min Operating Temperature: -55°C; Max Operating Temperature: 155°C; Tolerance: 1%; JESD-609 Code: e3; Resistor Type: FIXED RESISTOR; Construction: Rectangular; Package Style: SMTMeter; Packaging: Tape and Reel; Technology: METAL GLAZE/THICK FILM; Termination: Wraparound; Working Voltage: 150V; Reach SVHC Compliant: Yes; RoHS Compliant: Yes; ComponentLink1URL: https://datasheet.ciiva.com:443/pdfs/VipMasterIC/IC/PANA/PANA-S-A0009889626/PANA-S-A0009889626-1.pdf?src-supplier=IHS+Markit; ComponentLink1Description: https://datasheet.ciiva.com:443/pdfs/VipMasterIC/IC/PANA/PANA-S-A0009889626/PANA-S-A0009889626-1.pdf?src-supplier=IHS+Markit; ComponentLink2URL: https://datasheet.ciiva.com/11821/0900766b80f80784-11821662.pdf?src-supplier=Rs; ComponentLink2Description: https://datasheet.ciiva.com/11821/0900766b80f80784-11821662.pdf?src-supplier=Rs; ComponentLink3URL: https://datasheet.ciiva.com/7886/426256-7886757.pdf?src-supplier=Element14; ComponentLink3Description: https://datasheet.ciiva.com/7886/426256-7886757.pdf?src-supplier=Element14; ComponentLink4URL: https://datasheet.ciiva.com/24163/aoa0000ce2-24163385.pdf?src-supplier=Mouser; ComponentLink4Description: https://datasheet.ciiva.com/24163/aoa0000ce2-24163385.pdf?src-supplier=Mouser; ComponentLink5URL: https://datasheet.ciiva.com/6138/426256-6138794.pdf?src-supplier=Farnell; ComponentLink5Description: https://datasheet.ciiva.com/6138/426256-6138794.pdf?src-supplier=Farnell; ComponentLink6URL: https://datasheet.ciiva.com/22744/426256-22744188.pdf?src-supplier=Element14; ComponentLink6Description: https://datasheet.ciiva.com/22744/426256-22744188.pdf?src-supplier=Element14; ComponentLink7URL: https://datasheet.ciiva.com/46445/1678782-46445799.pdf?src-supplier=Element14; ComponentLink7Description: https://datasheet.ciiva.com/46445/1678782-46445799.pdf?src-supplier=Element14; ComponentLink8URL: https://datasheet.ciiva.com/22762/1678782-22762779.pdf?src-supplier=Farnell; ComponentLink8Description: https://datasheet.ciiva.com/22762/1678782-22762779.pdf?src-supplier=Farnell; ComponentLink9URL: https://datasheet.ciiva.com/30146/aoa0000ce2-30146411.pdf?src-supplier=Onlinecomponents.com; ComponentLink9Description: https://datasheet.ciiva.com/30146/aoa0000ce2-30146411.pdf?src-supplier=Onlinecomponents.com; ComponentLink10URL: https://datasheet.ciiva.com/16779/70260748-16779705.pdf?src-supplier=Allied+Electronics; ComponentLink10Description: https://datasheet.ciiva.com/16779/70260748-16779705.pdf?src-supplier=Allied+Electronics; ComponentLink11URL: https://datasheet.ciiva.com/16783/70260748-16783062.pdf?src-supplier=Allied+Electronics; ComponentLink11Description: https://datasheet.ciiva.com/16783/70260748-16783062.pdf?src-supplier=Allied+Electronics
footprint R_0805 (Chip Resistor, 2-Leads, Body 2.00x1.25mm, IPC Low Density)
pins: 1, 2

## R_0805_56R
designator R?, comment 56R
Fixed Resistor, Metal Glaze/thick Film, 0.125W, 56ohm, 150V, 1% +/-Tol, 100ppm/Cel, Surface Mount, 0805; Manufacturer: Panasonic; Manufacturer Part Number: ERJ-6ENF56R0V; Power: 125mW; Rated Temperature: 70°C; Temperature Coefficient: 100ppm/°C; Package Height: 0.6mm; Package Length: 2mm; Package Width: 1.25mm; Reference Standard: AEC-Q200; Supplier: Digikey; Supplier Part Number: P56.0CCT-ND; RoHS: Yes; Category: Chip SMD Resistors; Stock: 5436; Pricing: 1=0.11, 10=0.053, 50=0.0344, 100=0.0292, 500=0.02058, 1000=0.01792 (USD); Mounting Technology: Surface Mount; Pins: 2; Package Shape: Rectangular; Case/Package: 0805; Terminal Finish: Nickel; Min Operating Temperature: -55°C; Max Operating Temperature: 155°C; Tolerance: 1%; JESD-609 Code: e3; Resistor Type: FIXED RESISTOR; Construction: Rectangular; Package Style: SMTMeter; Packaging: Tape and Reel; Value: 56R; Technology: METAL GLAZE/THICK FILM; Termination: Wraparound; Working Voltage: 150V; Reach SVHC Compliant: Yes; RoHS Compliant: Yes; ComponentLink1URL: https://datasheet.ciiva.com:443/pdfs/VipMasterIC/IC/PANA/PANA-S-A0009889626/PANA-S-A0009889626-1.pdf?src-supplier=IHS+Markit; ComponentLink1Description: https://datasheet.ciiva.com:443/pdfs/VipMasterIC/IC/PANA/PANA-S-A0009889626/PANA-S-A0009889626-1.pdf?src-supplier=IHS+Markit; ComponentLink2URL: https://datasheet.ciiva.com/6137/426256-6137591.pdf?src-supplier=Farnell; ComponentLink2Description: https://datasheet.ciiva.com/6137/426256-6137591.pdf?src-supplier=Farnell; ComponentLink3URL: https://datasheet.ciiva.com/7909/426256-7909237.pdf?src-supplier=Element14; ComponentLink3Description: https://datasheet.ciiva.com/7909/426256-7909237.pdf?src-supplier=Element14; ComponentLink4URL: https://datasheet.ciiva.com/16773/70260748-16773326.pdf?src-supplier=Allied+Electronics; ComponentLink4Description: https://datasheet.ciiva.com/16773/70260748-16773326.pdf?src-supplier=Allied+Electronics; ComponentLink5URL: https://datasheet.ciiva.com/30101/aoa0000ce2-30101131.pdf?src-supplier=Onlinecomponents.com; ComponentLink5Description: https://datasheet.ciiva.com/30101/aoa0000ce2-30101131.pdf?src-supplier=Onlinecomponents.com
footprint R_0805 (Chip Resistor, 2-Leads, Body 2.00x1.25mm, IPC Low Density)
pins: 1, 2

## R_0805_62K
designator R?, comment 62K
Fixed Resistor, Metal Glaze/thick Film, 0.125W, 62000ohm, 150V, 1% +/-Tol, 100ppm/Cel, Surface Mount, 0805; Manufacturer: Panasonic; Manufacturer Part Number: ERJ-6ENF6202V; Power: 125mW; Rated Temperature: 70°C; Value: 62kR; Temperature Coefficient: 100ppm/°C; Package Height: 0.6mm; Package Length: 2mm; Package Width: 1.25mm; Reference Standard: AEC-Q200; Supplier: Digikey; Supplier Part Number: P62.0KCCT-ND; RoHS: Yes; Category: Chip SMD Resistors; Stock: 31110; Pricing: 1=0.11, 10=0.053, 50=0.0344, 100=0.0292, 500=0.02058, 1000=0.01792 (USD); Mounting Technology: Surface Mount; Pins: 2; Package Shape: Rectangular; Case/Package: 0805; Terminal Finish: Nickel; Min Operating Temperature: -55°C; Max Operating Temperature: 155°C; Tolerance: 1%; JESD-609 Code: e3; Resistor Type: FIXED RESISTOR; Construction: Rectangular; Package Style: SMTMeter; Packaging: Tape and Reel; Technology: METAL GLAZE/THICK FILM; Termination: Wraparound; Working Voltage: 150V; Reach SVHC Compliant: Yes; RoHS Compliant: Yes; ComponentLink1URL: https://datasheet.ciiva.com:443/pdfs/VipMasterIC/IC/PANA/PANA-S-A0009889626/PANA-S-A0009889626-1.pdf?src-supplier=IHS+Markit; ComponentLink1Description: https://datasheet.ciiva.com:443/pdfs/VipMasterIC/IC/PANA/PANA-S-A0009889626/PANA-S-A0009889626-1.pdf?src-supplier=IHS+Markit; ComponentLink2URL: https://datasheet.ciiva.com/11821/0900766b80f80784-11821692.pdf?src-supplier=Rs; ComponentLink2Description: https://datasheet.ciiva.com/11821/0900766b80f80784-11821692.pdf?src-supplier=Rs; ComponentLink3URL: https://datasheet.ciiva.com/9188/aoa0000ce2-9188460.pdf?src-supplier=Avnet; ComponentLink3Description: https://datasheet.ciiva.com/9188/aoa0000ce2-9188460.pdf?src-supplier=Avnet; ComponentLink4URL: https://datasheet.ciiva.com/7711/1678782-7711068.pdf?src-supplier=Element14; ComponentLink4Description: https://datasheet.ciiva.com/7711/1678782-7711068.pdf?src-supplier=Element14; ComponentLink5URL: https://datasheet.ciiva.com/30065/aoa0000ce2-30065881.pdf?src-supplier=Onlinecomponents.com; ComponentLink5Description: https://datasheet.ciiva.com/30065/aoa0000ce2-30065881.pdf?src-supplier=Onlinecomponents.com; ComponentLink6URL: https://datasheet.ciiva.com/46375/1678782-46375989.pdf?src-supplier=Element14; ComponentLink6Description: https://datasheet.ciiva.com/46375/1678782-46375989.pdf?src-supplier=Element14
footprint R_0805 (Chip Resistor, 2-Leads, Body 2.00x1.25mm, IPC Low Density)
pins: 1, 2

## R_0805_62R
designator R?, comment 62R
Fixed Resistor, Metal Glaze/thick Film, 0.125W, 62ohm, 150V, 1% +/-Tol, 100ppm/Cel, Surface Mount, 0805; Manufacturer: Panasonic; Manufacturer Part Number: ERJ-6ENF62R0V; Power: 125mW; Rated Temperature: 70°C; Temperature Coefficient: 100ppm/°C; Package Height: 0.6mm; Package Length: 2mm; Package Width: 1.25mm; Reference Standard: AEC-Q200; Supplier: Digikey; Supplier Part Number: P62.0CCT-ND; RoHS: Yes; Category: Chip SMD Resistors; Stock: 48778; Pricing: 1=0.11, 10=0.053, 50=0.0344, 100=0.0292, 500=0.02058, 1000=0.01792 (USD); Mounting Technology: Surface Mount; Pins: 2; Package Shape: Rectangular; Case/Package: 0805; Terminal Finish: Nickel; Min Operating Temperature: -55°C; Max Operating Temperature: 155°C; Tolerance: 1%; JESD-609 Code: e3; Resistor Type: FIXED RESISTOR; Construction: Rectangular; Package Style: SMTMeter; Packaging: Tape and Reel; Value: 62R; Technology: METAL GLAZE/THICK FILM; Termination: Wraparound; Working Voltage: 150V; Reach SVHC Compliant: Yes; RoHS Compliant: Yes; ComponentLink1URL: https://datasheet.ciiva.com:443/pdfs/VipMasterIC/IC/PANA/PANA-S-A0009889626/PANA-S-A0009889626-1.pdf?src-supplier=IHS+Markit; ComponentLink1Description: https://datasheet.ciiva.com:443/pdfs/VipMasterIC/IC/PANA/PANA-S-A0009889626/PANA-S-A0009889626-1.pdf?src-supplier=IHS+Markit; ComponentLink2URL: https://datasheet.ciiva.com/24026/aoa0000ce2-24026719.pdf?src-supplier=Mouser; ComponentLink2Description: https://datasheet.ciiva.com/24026/aoa0000ce2-24026719.pdf?src-supplier=Mouser; ComponentLink3URL: https://datasheet.ciiva.com/22674/1678782-22674521.pdf?src-supplier=Element14; ComponentLink3Description: https://datasheet.ciiva.com/22674/1678782-22674521.pdf?src-supplier=Element14
footprint R_0805 (Chip Resistor, 2-Leads, Body 2.00x1.25mm, IPC Low Density)
pins: 1, 2